# Altium schematic symbol library EMI FILTER TPD6F002DSVR.Schlib: 1 symbol
Pins are listed as number, name and electrical type; pins without a type are passive.

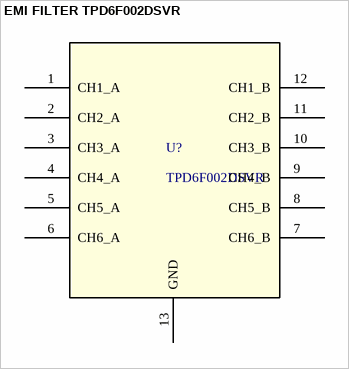
[diagram p0: symbol EMI FILTER TPD6F002DSVR]

## EMI FILTER TPD6F002DSVR
designator U?, comment TPD6F002DSVR
6-Channel EMI Filter for Display Interface; Manufacturer: Texas Instruments; Manufacturer Part Number: TPD6F002DSVR
footprint PSON50P140X80_HS-13N (PSON, 12-Leads, Body 3.00x1.35mm, Pitch 0.50mm, Thermal Pad 3.05x0.31mm, IPC Medium Density)
pins: 1 CH1_A, 2 CH2_A, 3 CH3_A, 4 CH4_A, 5 CH5_A, 6 CH6_A, 7 CH6_B, 8 CH5_B, 9 CH4_B, 10 CH3_B, 11 CH2_B, 12 CH1_B, 13 GND